# Altium footprint library ctdsp.PcbLib: 18 footprints (part 1 of 2)
Each footprint in its own frame and in the unit in brackets; x right, y up, seen from the top. Pads: shape width x height; smd on the part's side, far side on the other; paste and mask are expansions set on the pad; w line width, h text height; cw(c..) or ccw(c..) is an arc to the next point about the centre after c.
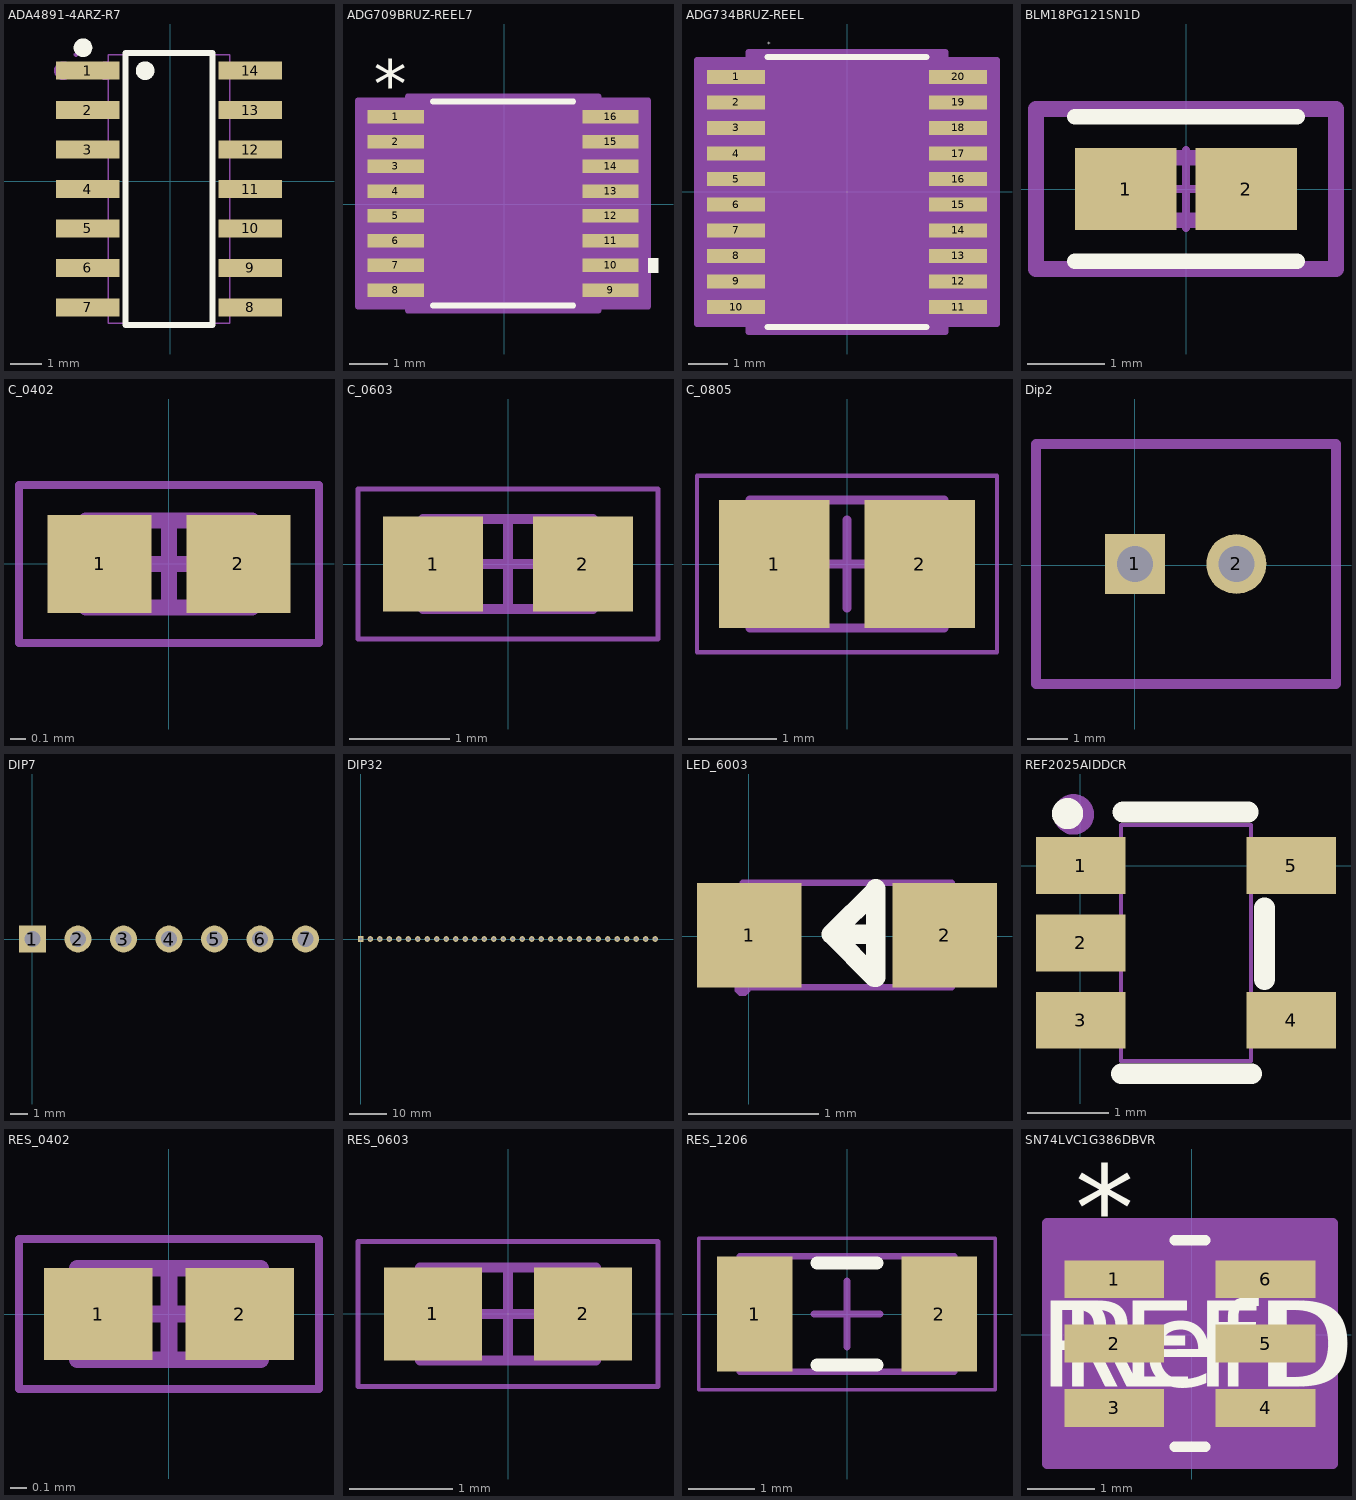
[diagram p0: the footprints below, top view; thin cyan lines are the x and y axes]

## ADA4891-4ARZ-R7 [mil]
pads (14):
  rect 80.24x22.6 smd: 1(-104.88,139.98) 2(-104.88,89.98) 3(-104.88,39.98) 4(-104.88,-10.02) 5(-104.88,-60.02) 6(-104.88,-110.02) 7(-104.88,-160.02) 8(101.34,-160.02) 9(101.34,-110.02) 10(101.34,-60.02) 11(101.34,-10.02) 12(101.34,39.98) 13(101.34,89.98) 14(101.34,139.98)
Top Overlay:
  circle w11.81: c-32.05,139.98 r5.91
  circle w11.81: c-110.79,169.09 r5.91
  circle w11.81: c-110.79,169.09 r5.91
  circle w11.81: c-32.05,139.98 r5.91
  lines w7.87: -56.77,-182.52 -56.77,162.48 53.23,162.48 53.23,-182.52 -56.77,-182.52
Mechanical 6:
  circle w11.81: c-81.97,139.98 r5.91
  circle w11.81: c-135.63,139.98 r5.91
Mechanical 15:
  drawing of 66 lines, arcs and shapes, not listed
3D body "ADA4891-4ARZ-R7.step": height 68.9, standoff 0, extent -120,-180 116.22,160.55

## ADG709BRUZ-REEL7 [mil]
pads (16):
  rect 58x14 smd paste+0 mask+0: 1(-112,90.57) 2(-112,64.98) 3(-112,39.39) 4(-112,13.8) 5(-112,-11.8) 6(-112,-37.39) 7(-112,-62.98) 8(-112,-88.57) 9(110,-88.57) 10(110,-62.98) 11(110,-37.39) 12(110,-11.8) 13(110,13.8) 14(110,39.39) 15(110,64.98) 16(110,90.57)
Top Overlay:
  region: 149,-55.48 159,-55.48 159,-70.48 149,-70.48
  lines w6: -73.42,-104.5 71.42,-104.5 ; -73.42,106.5 71.42,106.5
  text "*" at -134.5,99.57 h50
  text ".Designator" at -6,-3 h50
Mechanical 13:
  lines w1: -13,101.5 ccw(c-1,101.5) 11,101.5 ; -127,-94.57 -89.5,-94.57 -89.5,-82.57 -127,-82.57 -127,-94.57 ; -127,-68.98 -89.5,-68.98 -89.5,-56.98 -127,-56.98 -127,-68.98 ; -127,-43.39 -89.5,-43.39 -89.5,-31.39 -127,-31.39 -127,-43.39 ; -127,-17.8 -89.5,-17.8 -89.5,-5.8 -127,-5.8 -127,-17.8 ; -127,7.8 -89.5,7.8 -89.5,19.8 -127,19.8 -127,7.8 ; -127,33.39 -89.5,33.39 -89.5,45.39 -127,45.39 -127,33.39 ; -127,58.98 -89.5,58.98 -89.5,70.98 -127,70.98 -127,58.98 ; -127,84.57 -89.5,84.57 -89.5,96.57 -127,96.57 -127,84.57 ; -89.5,-99.5 -89.5,101.5 87.5,101.5 87.5,-99.5 -89.5,-99.5 ; 87.5,-94.57 125,-94.57 125,-82.57 87.5,-82.57 87.5,-94.57 ; 87.5,-68.98 125,-68.98 125,-56.98 87.5,-56.98 87.5,-68.98 ; 87.5,-43.39 125,-43.39 125,-31.39 87.5,-31.39 87.5,-43.39 ; 87.5,-17.8 125,-17.8 125,-5.8 87.5,-5.8 87.5,-17.8 ; 87.5,7.8 125,7.8 125,19.8 87.5,19.8 87.5,7.8 ; 87.5,33.39 125,33.39 125,45.39 87.5,45.39 87.5,33.39 ; 87.5,58.98 125,58.98 125,70.98 87.5,70.98 87.5,58.98 ; 87.5,84.57 125,84.57 125,96.57 87.5,96.57 87.5,84.57
  text ".Designator" at -4,-4 h50
  text "*" at -87,48.5 h50
Mechanical 15:
  region: -99.5,-105.57 -151,-105.57 -151,107.57 -99.5,107.57 -99.5,111.5 97.5,111.5 97.5,107.57 149,107.57 149,-105.57 97.5,-105.57 97.5,-109.5 -99.5,-109.5
  lines w6: -151,-105.57 -99.5,-105.57 -99.5,-109.5 97.5,-109.5 97.5,-105.57 149,-105.57 149,107.57 97.5,107.57 97.5,111.5 -99.5,111.5 -99.5,107.57 -151,107.57 -151,-105.57
3D body "RU_16_ADI.step": height 47.09, standoff 0, extent -126.98,-99.51 124.98,101.51

## ADG734BRUZ-REEL [mil]
pads (20):
  rect 58x14 smd: 1(-111,115.16) 2(-111,89.57) 3(-111,63.98) 4(-111,38.39) 5(-111,12.8) 6(-111,-12.8) 7(-111,-38.39) 8(-111,-63.98) 9(-111,-89.57) 10(-111,-115.16) 11(111,-115.16) 12(111,-89.57) 13(111,-63.98) 14(111,-38.39) 15(111,-12.8) 16(111,12.8) 17(111,38.39) 18(111,63.98) 19(111,89.57) 20(111,115.16)
Top Overlay:
  lines w6: -79.42,-135 79.42,-135 ; -79.42,135 79.42,135
  text "*" at -80,145 h5
Mechanical 13:
  lines w0: -12,130 ccw(c0,130) 12,130
  lines w1: -126,-121.16 -126,-109.16 -88.5,-109.16 -88.5,-121.16 -126,-121.16 ; -126,-95.57 -126,-83.57 -88.5,-83.57 -88.5,-95.57 -126,-95.57 ; -126,-69.98 -126,-57.98 -88.5,-57.98 -88.5,-69.98 -126,-69.98 ; -126,-44.39 -126,-32.39 -88.5,-32.39 -88.5,-44.39 -126,-44.39 ; -126,-18.8 -126,-6.8 -88.5,-6.8 -88.5,-18.8 -126,-18.8 ; -126,6.8 -126,18.8 -88.5,18.8 -88.5,6.8 -126,6.8 ; -126,32.39 -126,44.39 -88.5,44.39 -88.5,32.39 -126,32.39 ; -126,57.98 -126,69.98 -88.5,69.98 -88.5,57.98 -126,57.98 ; -126,83.57 -126,95.57 -88.5,95.57 -88.5,83.57 -126,83.57 ; -126,109.16 -126,121.16 -88.5,121.16 -88.5,109.16 -126,109.16 ; -88.5,-130 88.5,-130 88.5,130 -88.5,130 -88.5,-130 ; 88.5,-121.16 88.5,-109.16 126,-109.16 126,-121.16 88.5,-121.16 ; 88.5,-95.57 88.5,-83.57 126,-83.57 126,-95.57 88.5,-95.57 ; 88.5,-69.98 88.5,-57.98 126,-57.98 126,-69.98 88.5,-69.98 ; 88.5,-44.39 88.5,-32.39 126,-32.39 126,-44.39 88.5,-44.39 ; 88.5,-18.8 88.5,-6.8 126,-6.8 126,-18.8 88.5,-18.8 ; 88.5,6.8 88.5,18.8 126,18.8 126,6.8 88.5,6.8 ; 88.5,32.39 88.5,44.39 126,44.39 126,32.39 88.5,32.39 ; 88.5,57.98 88.5,69.98 126,69.98 126,57.98 88.5,57.98 ; 88.5,83.57 88.5,95.57 126,95.57 126,83.57 88.5,83.57 ; 88.5,109.16 88.5,121.16 126,121.16 126,109.16 88.5,109.16
  text "*" at -86,77 h50
Mechanical 15:
  region: -98.5,-132.16 -150,-132.16 -150,132.16 -98.5,132.16 -98.5,140 98.5,140 98.5,132.16 150,132.16 150,-132.16 98.5,-132.16 98.5,-140 -98.5,-140
  lines w6: -150,-132.16 -150,132.16 -98.5,132.16 -98.5,140 98.5,140 98.5,132.16 150,132.16 150,-132.16 98.5,-132.16 98.5,-140 -98.5,-140 -98.5,-132.16 -150,-132.16
3D body "RU_20_ADI.step": height 47.09, standoff 0, extent -125.98,-130 125.98,130

## BLM18PG121SN1D [mil]
pads (2):
  rect 51.42x41.66 smd paste+0 mask+0: 1(-30.55,0) 2(30.55,0)
Top Overlay:
  lines w7.87: -56.26,-36.58 56.26,-36.58 ; -56.26,36.58 56.26,36.58
Top 3D Body:
  lines w7.87: -31.5,-15.75 31.5,-15.75 31.5,15.75 -31.5,15.75 -31.5,-15.75
Board:
  lines w7.87: -75.95,-40.52 75.95,-40.52 75.95,40.52 -75.95,40.52 -75.95,-40.52
Top Assembly:
  lines w7.87: -75.95,-40.52 75.95,-40.52 75.95,40.52 -75.95,40.52 -75.95,-40.52
  text ".Designator" at 0,7.4 h39.37
Top Component Center:
  lines w3.94: -19.68,0 19.68,0 ; 0,-19.68 0,19.68
3D body "FBead_Murata_BLM18EG221SN1D_eec.STEP": height 10, standoff 0, extent -75.95,-40.52 75.95,40.52

## C_0402 [mm]
height 0.55
pads (2):
  rect 0.66x0.62 smd paste+0 mask+0.051: 1(-0.44,0) 2(0.44,0)
Mechanical 13:
  lines w0.1: -0.525,-0.275 0.525,-0.275 0.525,0.275 -0.525,0.275 -0.525,-0.275
Mechanical 15:
  lines w0.05: -0.95,-0.5 0.95,-0.5 0.95,0.5 -0.95,0.5 -0.95,-0.5
  lines w0.1: -0.275,0 0.275,0 ; 0,-0.275 0,0.275
3D body "C_0402.step": height 0.55, standoff 0, extent -0.525,-0.275 0.525,0.275

## C_0603 [mm]
height 0.9
pads (2):
  rect 1x0.95 smd: 1(-0.75,0) 2(0.75,0)
Top Courtyard:
  lines w0.05: -1.5,-0.75 -1.5,0.75 1.5,0.75 1.5,-0.75 -1.5,-0.75
  lines w0.1: -0.45,0 0.45,0 ; 0,-0.45 0,0.45
Top Assembly:
  lines w0.1: -0.85,-0.45 -0.85,0.45 0.85,0.45 0.85,-0.45 -0.85,-0.45
3D body "C_0603.step": height 0.9, standoff 0, extent -0.85,-0.45 0.85,0.45

## C_0805 [mm]
height 1.45
pads (2):
  rect 1.25x1.45 smd: 1(-0.825,0) 2(0.825,0)
Top Courtyard:
  lines w0.05: -1.7,-1 1.7,-1 1.7,1 -1.7,1 -1.7,-1
  lines w0.1: -0.5,0 0.5,0 ; 0,-0.5 0,0.5
Top Assembly:
  lines w0.1: -1.1,-0.725 1.1,-0.725 1.1,0.725 -1.1,0.725 -1.1,-0.725
3D body "C_0805.step": height 1.45, standoff 0, extent -1.1,-0.725 1.1,0.725

## Dip2 [mm]
pads (2):
  rect 1.5x1.5 hole 0.9: 1(0,0.025)
  round 1.5 hole 0.9: 2(2.54,0.025)
Top Courtyard:
  lines w0.254: -2.471,-2.975 -2.471,3.025 5.029,3.025 5.029,-2.975 -2.471,-2.975

## DIP7 [mm]
pads (7):
  rect 1.5x1.5 hole 0.9: 1(0,0)
  round 1.5 hole 0.9: 2(2.54,0) 3(5.08,0) 4(7.62,0) 5(10.16,0) 6(12.7,0) 7(15.24,0)

## DIP32 [mm]
pads (32):
  rect 1.5x1.5 hole 0.9: 1(0,0)
  round 1.5 hole 0.9: 2(2.54,0) 3(5.08,0) 4(7.62,0) 5(10.16,0) 6(12.7,0) 7(15.24,0) 8(17.78,0) 9(20.32,0) 10(22.86,0) 11(25.4,0) 12(27.94,0) 13(30.48,0) 14(33.02,0) 15(35.56,0) 16(38.1,0) 17(40.64,0) 18(43.18,0) 19(45.72,0) 20(48.26,0) 21(50.8,0) 22(53.34,0) 23(55.88,0) 24(58.42,0) 25(60.96,0) 26(63.5,0) 27(66.04,0) 28(68.58,0) 29(71.12,0) 30(73.66,0) 31(76.2,0) 32(78.74,0)

## LED_6003 [mm]
pads (2):
  rect 0.8x0.8 smd: 1(0.004,0.009) 2(1.502,0.009)
Top Overlay:
  lines w0.15: 0.973,0.016 0.633,0.016 ; 0.633,0.016 0.973,0.356 0.973,0.366 0.973,-0.314 0.963,-0.314 0.633,0.016
Mechanical 6:
  region: 1.282,0.078 1.822,0.078 1.822,-0.052 1.282,-0.052
  region: 1.488,-0.258 1.488,0.282 1.618,0.282 1.618,-0.258
  region: -0.317,0.071 0.223,0.071 0.223,-0.059 -0.317,-0.059
Mechanical 15:
  region: 1.253,-0.387 1.253,0.413 1.553,0.413 1.553,-0.387
  region: -0.047,-0.394 -0.047,0.406 0.253,0.406 0.253,-0.394
  region: 0.014,-0.394 0.014,-0.419 -0.022,-0.454 -0.071,-0.454 -0.106,-0.419 -0.106,-0.394 -0.106,-0.369 -0.071,-0.334 -0.022,-0.334 0.014,-0.369
  lines w0.051: -0.047,-0.391 1.553,-0.391 1.553,0.409 -0.047,0.409 -0.047,-0.391
3D body: height 0.3, standoff 0.02, extent -0.047,-0.387 1.553,0.409
3D body: height 0.35, standoff 0, extent 1.403,-0.387 1.553,0.413
3D body: height 0.35, standoff 0, extent -0.047,-0.394 0.103,0.406

## REF2025AIDDCR [mm]
pads (5):
  rect 1.1x0.7 smd: 1(0.006,0.002) 2(0.006,-0.947) 3(0.006,-1.899) 4(2.594,-1.899) 5(2.594,0)
Top Overlay:
  circle w0.254: c-0.157,0.641 r0.064
  lines w0.254: 0.505,-2.558 2.105,-2.558 ; 0.525,0.66 2.065,0.66 ; 2.265,-1.399 2.265,-0.516
Mechanical 6:
  circle w0.25: c-0.081,0.631 r0.125
Mechanical 15:
  region: -0.16,0.501 -0.16,0.526 -0.125,0.561 -0.076,0.561 -0.04,0.526 -0.04,0.501 -0.04,0.477 -0.076,0.441 -0.125,0.441 -0.16,0.477
  region: 2.185,0.201 2.185,-0.199 2.09,-0.199 2.09,0.201
  region: 2.7,0.201 2.7,-0.199 2.175,-0.199 2.175,0.201
  region: 2.185,-1.7 2.185,-2.1 2.09,-2.1 2.09,-1.7
  region: 2.7,-1.7 2.7,-2.1 2.175,-2.1 2.175,-1.7
  region: 0.51,-1.7 0.51,-2.1 0.415,-2.1 0.415,-1.7
  region: 0.425,-1.7 0.425,-2.1 -0.1,-2.1 -0.1,-1.7
  region: 0.51,-0.748 0.51,-1.148 0.415,-1.148 0.415,-0.748
  region: 0.425,-0.748 0.425,-1.148 -0.1,-1.148 -0.1,-0.748
  region: 0.51,0.202 0.51,-0.198 0.415,-0.198 0.415,0.202
  region: 0.425,0.202 0.425,-0.198 -0.1,-0.198 -0.1,0.202
  lines w0.051: 0.5,-2.399 2.1,-2.399 2.1,0.501 0.5,0.501 0.5,-2.399

## RES_0402 [mm]
height 0.35
pads (2):
  rect 0.65x0.55 smd paste+0 mask+0.05: 1(-0.425,0) 2(0.425,0)
Mechanical 13:
  lines w0.1: -0.55,-0.275 0.55,-0.275 0.55,0.275 -0.55,0.275 -0.55,-0.275
Mechanical 15:
  lines w0.05: -0.9,-0.45 0.9,-0.45 0.9,0.45 -0.9,0.45 -0.9,-0.45
  lines w0.1: -0.275,0 0.275,0 ; 0,-0.275 0,0.275
3D body "RES_0402.step": height 0.35, standoff 0, extent -0.55,-0.275 0.55,0.275

## RES_0603 [mm]
height 0.55
pads (2):
  rect 0.95x0.9 smd: 1(-0.725,0) 2(0.725,0)
Top Courtyard:
  lines w0.05: -1.45,-0.7 -1.45,0.7 1.45,0.7 1.45,-0.7 -1.45,-0.7
  lines w0.1: -0.45,0 0.45,0 ; 0,-0.45 0,0.45
Top Assembly:
  lines w0.1: -0.85,-0.45 -0.85,0.45 0.85,0.45 0.85,-0.45 -0.85,-0.45
3D body "RES_0603.step": height 0.55, standoff 0, extent -0.85,-0.45 0.85,0.45

## RES_1206 [mm]
height 0.65
pads (2):
  rect 1.15x1.75 smd: 1(-1.4,0) 2(1.4,0)
Top Overlay:
  lines w0.2: -0.45,-0.775 0.45,-0.775 ; -0.45,0.775 0.45,0.775
Top Courtyard:
  lines w0.05: -2.25,-1.15 -2.25,1.15 2.25,1.15 2.25,-1.15 -2.25,-1.15
  lines w0.1: -0.5,0 0.5,0 ; 0,-0.5 0,0.5
Top Assembly:
  lines w0.1: -1.625,-0.875 -1.625,0.875 1.625,0.875 1.625,-0.875 -1.625,-0.875
3D body "RES_1206.step": height 0.65, standoff 0, extent -1.625,-0.875 1.625,0.875

## SN74LVC1G386DBVR [mil]
pads (6):
  rect 58x22 smd paste-29 mask-29: 1(-45,32.4) 2(-45,-5) 3(-45,-42.4) 4(43,-42.4) 5(43,-5) 6(43,32.4)
Top Overlay:
  lines w6: -9.91,-65 7.91,-65 ; -9.91,55 7.91,55
  text "REFDES" at -88.5,-30 h50
  text "*" at -67.5,49.4 h50
  text "RefDes" at -76,-30 h50
Mechanical 13:
  lines w0: -13,55 ccw(c-1,55) 11,55
  lines w1: -60,-52.4 -60,-32.4 -35.5,-32.4 -35.5,-52.4 -60,-52.4 ; -60,-15 -60,5 -35.5,5 -35.5,-15 -60,-15 ; -60,22.4 -60,42.4 -35.5,42.4 -35.5,22.4 -60,22.4 ; -35.5,-65 33.5,-65 33.5,55 -35.5,55 -35.5,-65 ; 33.5,-52.4 33.5,-32.4 58,-32.4 58,-52.4 33.5,-52.4 ; 33.5,-15 33.5,5 58,5 58,-15 33.5,-15 ; 33.5,22.4 33.5,42.4 58,42.4 58,22.4 33.5,22.4
  text "*" at -67.5,49.4 h50
  text "RefDes2" at -88.5,-30 h50
Mechanical 15:
  region: 82,-75 -84,-75 -84,65 82,65
  lines w6: -84,-75 -84,65 82,65 82,-75 -84,-75
3D body "DBV6.step": height 57.09, standoff 0, extent -60.02,-65 58.02,55